# EAGLE library part EX_FRDM_TOP_PAYLOAD_SOCKET (library wicked-device)
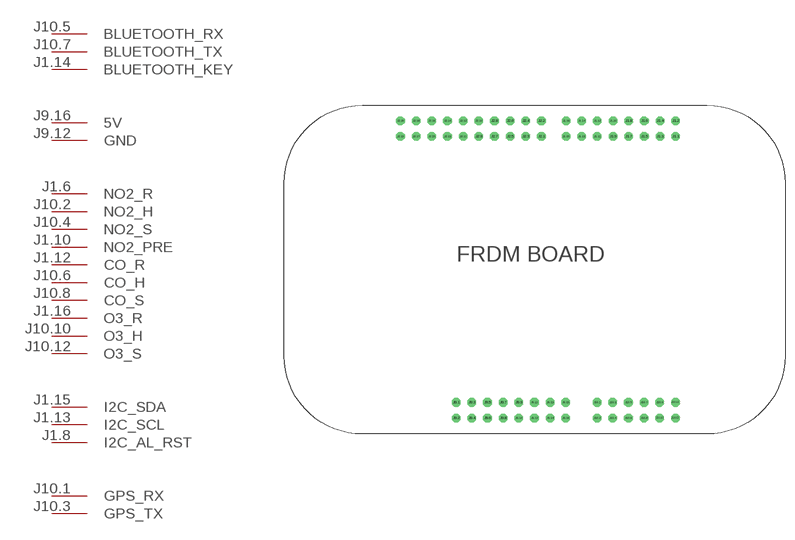
[diagram p17: symbol with the pads of EX_FRDM_TOP_PAYLOAD_SOCKET; footprint EX_FRDM_TOP_PAYLOAD_SOCKET]

Designator prefix -

## EX_FRDM_TOP_PAYLOAD_SOCKET  [EX_FRDM_TOP_PAYLOAD_SOCKET]
J1.6  NO2_R
J1.8  I2C_AL_RST
J1.10  NO2_PRE
J1.12  CO_R
J1.13  I2C_SCL
J1.14  BLUETOOTH_KEY
J1.15  I2C_SDA
J1.16  O3_R
J9.12  GND
J9.16  5V
J10.1  GPS_RX
J10.2  NO2_H
J10.3  GPS_TX
J10.4  NO2_S
J10.5  BLUETOOTH_RX
J10.6  CO_H
J10.7  BLUETOOTH_TX
J10.8  CO_S
J10.10  O3_H
J10.12  O3_S

## Footprint EX_FRDM_TOP_PAYLOAD_SOCKET (pad centres in mm)
drill 0.889 octagon: J1.1 63.5,48.26; J1.2 63.5,50.8; J1.3 60.96,48.26; J1.4 60.96,50.8; J1.5 58.42,48.26; J1.6 58.42,50.8; J1.7 55.88,48.26; J1.8 55.88,50.8; J1.9 53.34,48.26; J1.10 53.34,50.8; J1.11 50.8,48.26; J1.12 50.8,50.8; J1.13 48.26,48.26; J1.14 48.26,50.8; J1.15 45.72,48.26; J1.16 45.72,50.8; J2.1 41.732,48.26; J2.2 41.732,50.8; J2.3 39.192,48.26; J2.4 39.192,50.8; J2.5 36.652,48.26; J2.6 36.652,50.8; J2.7 34.112,48.26; J2.8 34.112,50.8; J2.9 31.572,48.26; J2.10 31.572,50.8; J2.11 29.032,48.26; J2.12 29.032,50.8; J2.13 26.492,48.26; J2.14 26.492,50.8; J2.15 23.952,48.26; J2.16 23.952,50.8; J2.17 21.412,48.26; J2.18 21.412,50.8; J2.19 18.872,48.26; J2.20 18.872,50.8; J9.1 27.903,5.118; J9.2 27.903,2.578; J9.3 30.443,5.118; J9.4 30.443,2.578; J9.5 32.983,5.118; J9.6 32.983,2.578; J9.7 35.523,5.118; J9.8 35.523,2.578; J9.9 38.063,5.118; J9.10 38.063,2.578; J9.11 40.603,5.118; J9.12 40.603,2.578; J9.13 43.143,5.118; J9.14 43.143,2.578; J9.15 45.683,5.118; J9.16 45.683,2.578; J10.1 50.763,5.118; J10.2 50.763,2.578; J10.3 53.303,5.118; J10.4 53.303,2.578; J10.5 55.843,5.118; J10.6 55.843,2.578; J10.7 58.383,5.118; J10.8 58.383,2.578; J10.9 60.923,5.118; J10.10 60.923,2.578; J10.11 63.463,5.118; J10.12 63.463,2.578